# Altium schematic symbol library STM32G431CBY3TR.SchLib: 1 symbol
Pins are listed as number, name and electrical type; pins without a type are passive.

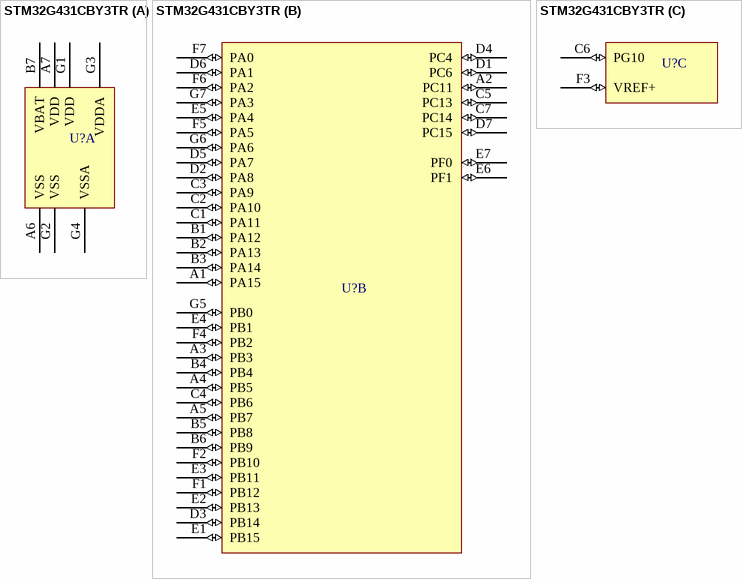
[diagram p0: symbol STM32G431CBY3TR]

## STM32G431CBY3TR
designator U?  (value not drawn)
Mainstream Arm Cortex-M4 MCU 170 MHz with 128 Kbytes of Flash memory, Math Accelerator, Medium Analog level integration
part A pins: A6 VSS (power), A7 VDD (power), B7 VBAT (power), G1 VDD (power), G2 VSS (power), G3 VDDA (power), G4 VSSA (power)
part B pins: A1 PA15 (io), A2 PC11 (io), A3 PB3 (io), A4 PB5 (io), A5 PB7 (io), B1 PA12 (io), B2 PA13 (io), B3 PA14 (io), B4 PB4 (io), B5 PB8 (io), B6 PB9 (io), C1 PA11 (io), C2 PA10 (io), C3 PA9 (io), C4 PB6 (io), C5 PC13 (io), C7 PC14 (io), D1 PC6 (io), D2 PA8 (io), D3 PB14 (io), D4 PC4 (io), D5 PA7 (io), D6 PA1 (io), D7 PC15 (io), E1 PB15 (io), E2 PB13 (io), E3 PB11 (io), E4 PB1 (io), E5 PA4 (io), E6 PF1 (io), E7 PF0 (io), F1 PB12 (io), F2 PB10 (io), F4 PB2 (io), F5 PA5 (io), F6 PA2 (io), F7 PA0 (io), G5 PB0 (io), G6 PA6 (io), G7 PA3 (io)
part C pins: C6 PG10 (io), F3 VREF+ (io)